# Altium footprint library 0039301120.PcbLib: 1 footprints
Each footprint in its own frame and in the unit in brackets; x right, y up, seen from the top. Pads: shape width x height; smd on the part's side, far side on the other; paste and mask are expansions set on the pad; w line width, h text height; cw(c..) or ccw(c..) is an arc to the next point about the centre after c.
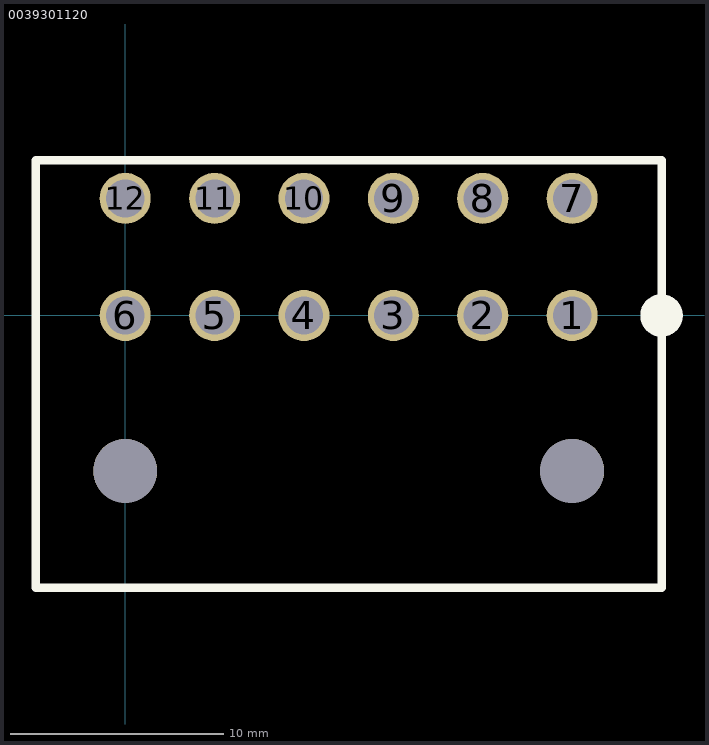
[diagram p0: the footprint, top view; thin cyan lines are the x and y axes]

## 0039301120 [mm] "12-pin Molex Minifit Jr"
pads (14):
  round 2.4 hole 1.8: 1(21,0) 2(16.8,0) 3(12.6,0) 4(8.4,0) 5(4.2,0) 6(0,0) 7(21,5.5) 8(16.8,5.5) 9(12.6,5.5) 10(8.4,5.5) 11(4.2,5.5) 12(0,5.5)
  round 3 hole 3 unplated: ""(0,-7.3) ""(21,-7.3)
Top Overlay:
  circle w1: c25.2,0 r0.5
  lines w0.4: -4.2,-12.8 25.2,-12.8 25.2,7.3 -4.2,7.3 -4.2,-12.8